# Altium footprint library Diode_Littelfuse_Inc_SP3003-08ATG_eec_MFG.PcbLib: 1 footprints
Each footprint in its own frame and in the unit in brackets; x right, y up, seen from the top. Pads: shape width x height; smd on the part's side, far side on the other; paste and mask are expansions set on the pad; w line width, h text height; cw(c..) or ccw(c..) is an arc to the next point about the centre after c.
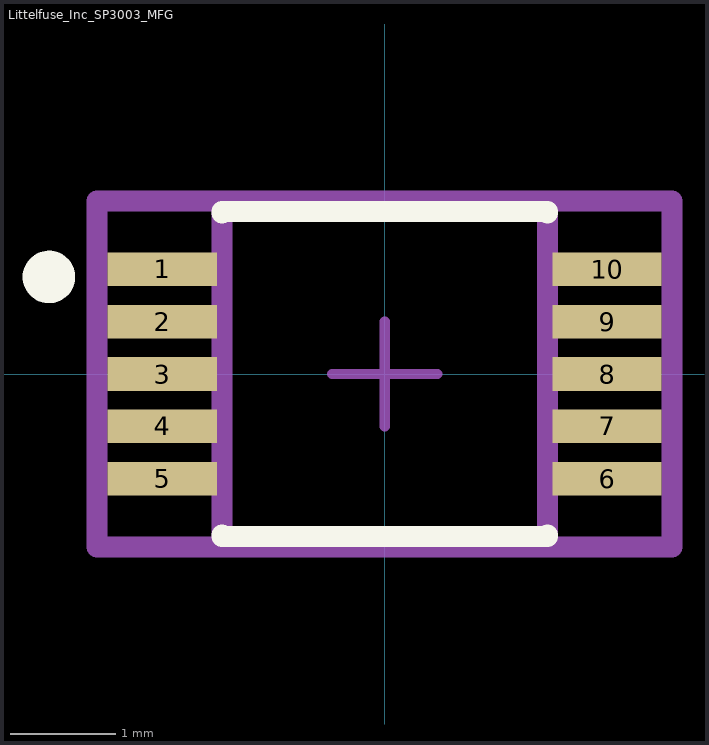
[diagram p0: the footprint, top view; thin cyan lines are the x and y axes]

## Littelfuse_Inc_SP3003_MFG [mm]
pads (10):
  rect 1.04x0.32 smd paste+0 mask+0: 1(-2.12,1) 2(-2.12,0.5) 3(-2.12,0) 4(-2.12,-0.5) 5(-2.12,-1) 6(2.12,-1) 7(2.12,-0.5) 8(2.12,0) 9(2.12,0.5) 10(2.12,1)
Top Overlay:
  circle w0.25: c-3.2,0.925 r0.125
  lines w0.2: -1.55,-1.535 -1.55,-1.55 1.55,-1.55 1.55,-1.535 ; -1.55,1.535 -1.55,1.55 1.55,1.55 1.55,1.535
Mechanical 10:
  lines w0.2: -2.74,-1.65 2.74,-1.65 2.74,1.65 -2.74,1.65 -2.74,-1.65
  text ".Designator" at 0,0 h1
Mechanical 12:
  lines w0.2: -1.55,-1.55 1.55,-1.55 1.55,1.55 -1.55,1.55 -1.55,-1.55
Mechanical 15:
  lines w0.1: -0.5,0 0.5,0 ; 0,-0.5 0,0.5
  lines w0.2: -2.74,-1.65 2.74,-1.65 2.74,1.65 -2.74,1.65 -2.74,-1.65
3D body "Diode_Littelfuse_Inc_SP3003-08ATG_eec.STEP": height 0.25, standoff 0, extent -2.74,-1.65 2.74,1.65